# Altium footprint library BOURNS_MOV10D.PcbLib: 1 footprints
Each footprint in its own frame and in the unit in brackets; x right, y up, seen from the top. Pads: shape width x height; smd on the part's side, far side on the other; paste and mask are expansions set on the pad; w line width, h text height; cw(c..) or ccw(c..) is an arc to the next point about the centre after c.
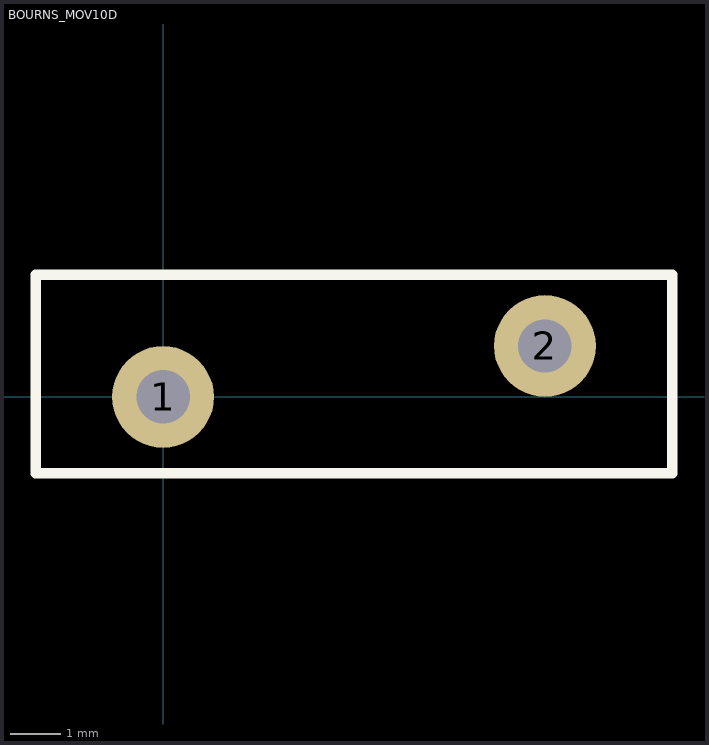
[diagram p0: the footprint, top view; thin cyan lines are the x and y axes]

## BOURNS_MOV10D [mm] "Bourns MOV1D series Metal Oxide Varistor"
pads (2):
  round 2 hole 1.05: 1(0,0) 2(7.5,1)
Top Overlay:
  lines w0.2: -2.5,-1.5 10,-1.5 10,2.4 -2.5,2.4 -2.5,-1.5
3D body "mov-10d221k.stp": height 15.75, standoff -19.75, extent -2.45,-1.5 10.05,2.4